# EAGLE library part MCP23S09 (library ic-Microchip)
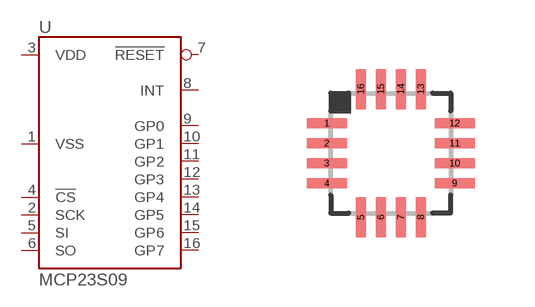
[diagram p3: symbol with the pads of QFN16-0.5-NOPAD; footprint QFN16-0.5-NOPAD]

Designator prefix U

## MCP23S09  [QFN16-0.5-NOPAD]
1  VSS
2  SCK
3  VDD
4  !CS
5  SI
6  SO
7  !RESET
8  INT
9  GP0
10  GP1
11  GP2
12  GP3
13  GP4
14  GP5
15  GP6
16  GP7

## Footprint QFN16-0.5-NOPAD (pad centres in mm)
smd 1 x 0.25: 1 -1.6,0.75; 2 -1.6,0.25; 3 -1.6,-0.25; 4 -1.6,-0.75; 9 1.6,-0.75; 10 1.6,-0.25; 11 1.6,0.25; 12 1.6,0.75
smd 0.25 x 1: 5 -0.75,-1.6; 6 -0.25,-1.6; 7 0.25,-1.6; 8 0.75,-1.6; 13 0.75,1.6; 14 0.25,1.6; 15 -0.25,1.6; 16 -0.75,1.6